# Altium footprint library MyPcbLib.PcbLib: 43 footprints (part 3 of 3)
Each footprint in its own frame and in the unit in brackets; x right, y up, seen from the top. Pads: shape width x height; smd on the part's side, far side on the other; paste and mask are expansions set on the pad; w line width, h text height; cw(c..) or ccw(c..) is an arc to the next point about the centre after c.
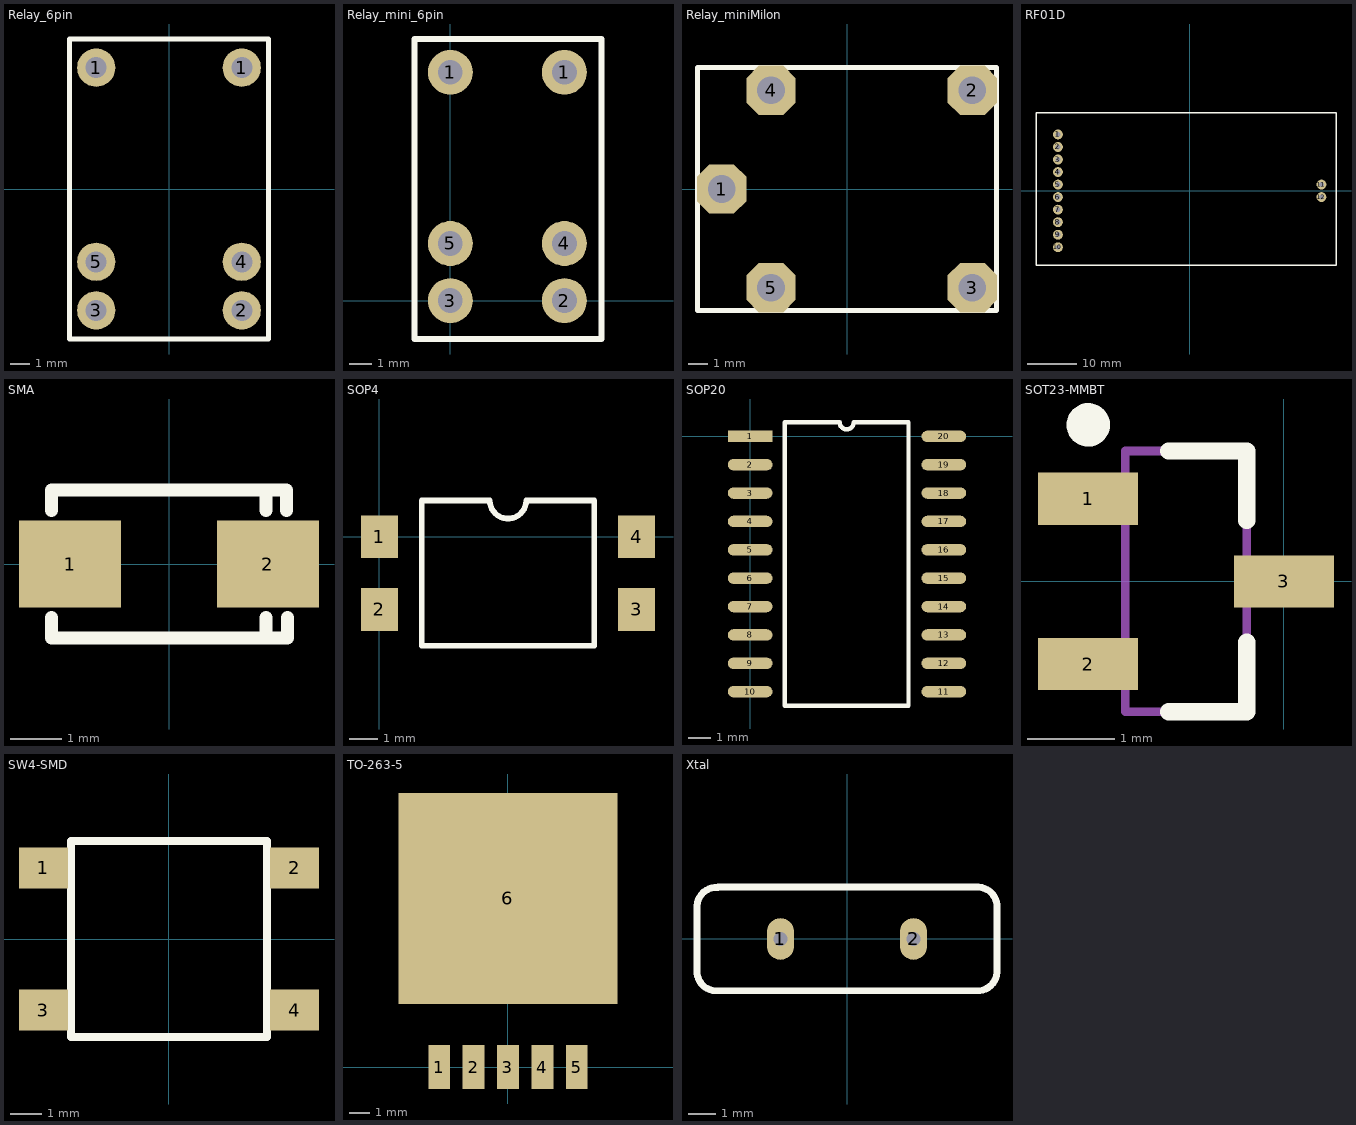
[diagram p2: the footprints below, top view; thin cyan lines are the x and y axes]

## Relay_6pin [mm]
height 11.2
pads (6):
  round 2 hole 1.1: 1(-3.81,6.35) 1(3.81,6.35) 2(3.81,-6.35) 3(-3.81,-6.35) 4(3.81,-3.81) 5(-3.81,-3.81)
Top Overlay:
  lines w0.254: -5.2,-7.85 -5.2,7.85 5.2,7.85 5.2,-7.85 -5.2,-7.85
3D body: height 11.7, standoff 0, extent -5.2,-7.85 5.2,7.85

## Relay_mini_6pin [mm]
height 10
pads (6):
  round 2 hole 1.1: 1(0,10.16) 1(5.08,10.16) 2(5.08,0) 3(0,0) 4(5.08,2.54) 5(0,2.54)
Top Overlay:
  lines w0.254: -1.595,-1.71 6.73,-1.71 6.73,11.64 -1.595,11.64 -1.595,-1.685
3D body: height 10, standoff 0, extent -1.722,-1.837 6.857,11.767

## Relay_miniMilon [mm]
height 14
pads (5):
  oct 2.5x2.5 hole 1.4: 1(-6.35,0) 2(6.35,5) 3(6.35,-5) 4(-3.85,5) 5(-3.85,-5)
Top Overlay:
  lines w0.254: -7.58,-6.15 -7.58,6.15 7.58,6.15 7.58,-6.15 -7.58,-6.15
3D body: height 14, standoff 0, extent -7.702,-6.352 7.702,6.352

## RF01D [mm]
height 12
pads (12):
  round 2 hole 1: 1(-26.7,11.43) 2(-26.7,8.89) 3(-26.7,6.35) 4(-26.7,3.81) 5(-26.7,1.27) 6(-26.7,-1.27) 7(-26.7,-3.81) 8(-26.7,-6.35) 9(-26.7,-8.89) 10(-26.7,-11.43) 11(26.7,1.27) 12(26.7,-1.27)
Top Overlay:
  lines w0.254: -31.145,-15.125 -31.145,15.875 29.655,15.875 29.655,-15.125 -31.145,-15.125
3D body: height 13, standoff 0, extent -31.145,-15.127 29.655,15.875

## SMA [mm]
height 2.6
pads (2):
  rect 2x1.7 smd: 1(-1.94,0) 2(1.94,0)
Top Overlay:
  lines w0.254: -2.3,-1.05 -2.3,-1.45 2.325,-1.45 2.325,-1.05 ; -2.3,1.05 -2.3,1.45 2.3,1.45 2.3,1.05 ; 1.9,-1.397 1.9,-1.05 ; 1.905,1.05 1.905,1.397
3D body: height 2.6, standoff 0, extent -2.427,-1.577 2.427,1.577

## SOP4 [mm]
height 2.5
pads (4):
  rect 1.3x1.5 smd: 1(0,0) 2(0,-2.54) 3(9,-2.54) 4(9,0)
Top Overlay:
  lines w0.2: 1.485,-3.81 7.515,-3.81 7.515,1.27 5.135,1.27 cw(c4.5,1.27) 3.865,1.27 1.485,1.27 1.485,-3.81
3D body: height 2.1, standoff 0, extent 1.385,-3.91 7.615,1.37

## SOP20 [mm]
height 10
pads (20):
  rect 2x0.51 smd: 1(0,0)
  oval 2x0.51 smd: 2(0,-1.27) 3(0,-2.54) 4(0,-3.81) 5(0,-5.08) 6(0,-6.35) 7(0,-7.62) 8(0,-8.89) 9(0,-10.16) 10(0,-11.43) 11(8.675,-11.43) 12(8.675,-10.16) 13(8.675,-8.89) 14(8.675,-7.62) 15(8.675,-6.35) 16(8.675,-5.08) 17(8.675,-3.81) 18(8.675,-2.54) 19(8.675,-1.27) 20(8.675,0)
Top Overlay:
  lines w0.2: 1.56,-12.065 1.56,0.635 4.008,0.635 ccw(c4.325,0.635) 4.643,0.635 7.09,0.635 7.09,-12.065 1.56,-12.065
3D body: height 2, standoff 0, extent 0.275,-12.05 8.375,0.65

## SOT23-MMBT [mm]
height 1.1
pads (3):
  rect 1.15x0.6 smd: 1(-2.25,0.95) 2(-2.25,-0.95) 3(0,0)
Top Overlay:
  circle w0.25: c-2.25,1.8 r0.125
  lines w0.2: -1.325,-1.5 -0.425,-1.5 -0.425,-0.7 ; -1.325,1.5 -0.425,1.5 -0.425,0.7
Mechanical 13:
  lines w0.1: -1.825,-1.5 -1.825,1.5 -0.425,1.5 -0.425,-1.5 -1.825,-1.5
3D body: height 1.1, standoff 0, extent -1.825,-1.5 -0.425,1.5

## SW4-SMD [mm]
height 7
pads (4):
  rect 1.55x1.3 smd: 1(-3.975,2.25) 2(3.975,2.25) 3(-3.975,-2.25) 4(3.975,-2.25)
Top Overlay:
  lines w0.254: -3.1,-3.1 -3.1,3.1 3.1,3.1 3.1,-3.1 -3.1,-3.1
3D body: height 4.35, standoff 0, extent -3,-3 3,3

## TO-263-5 [mm]
height 1.5
pads (6):
  rect 1.07x2.16 smd: 1(-3.4,0) 2(-1.7,0) 3(0,0) 4(1.7,0) 5(3.4,0)
  rect 10.8x10.41 smd: 6(0,8.325)
3D body: height 4.56, standoff 0, extent -5.105,-0.802 5.055,13.213

## Xtal [mm]
height 3.6
pads (2):
  oval 1x1.524 hole 0.5: 1(-2.44,0) 2(2.44,0)
Top Overlay:
  lines w0.254: -5.5,1.221 -5.5,-1.143 ccw(c-4.795,-1.194) -4.826,-1.9 4.739,-1.9 ccw(c4.79,-1.195) 5.496,-1.226 ; -5.496,1.221 cw(c-4.79,1.19) -4.739,1.895 ; -4.739,1.9 4.826,1.9 cw(c4.795,1.194) 5.5,1.143 5.5,-1.226
3D body: height 3.6, standoff 0, extent -5.629,-2.029 5.629,2.027